# EAGLE library part IN-8-2 (library 0-nixies-russian)
IN-8-2: medium numeric frontview nixie tube
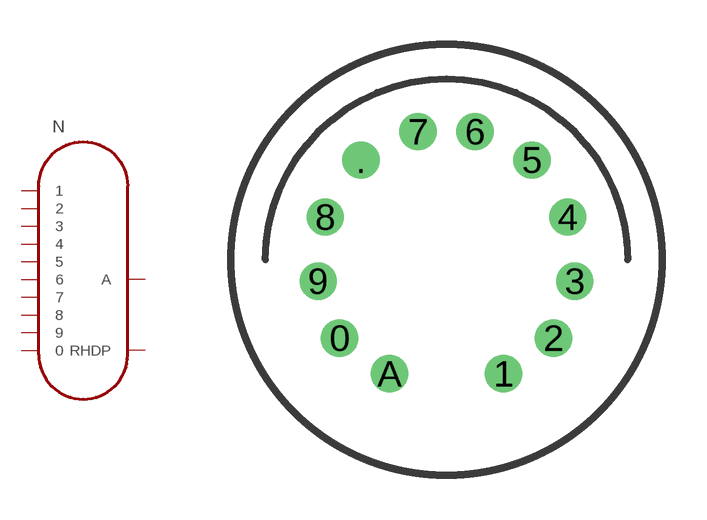
[diagram p1: symbol with the pads of IN-8-2; footprint IN-8-2]

Designator prefix N

## IN-8-2  [IN-8-2]
0  0
1  1
2  2
3  3
4  4
5  5
6  6
7  7
8  8
9  9
.  RHDP
A  A

## Footprint IN-8-2 (pad centres in mm)
drill 0.8 round: 0 -3.75,-2.75; 1 2,-4; 2 3.75,-2.75; 3 4.5,-0.75; 4 4.25,1.5; 5 3,3.5; 6 1,4.5; 7 -1,4.5; 8 -4.25,1.5; 9 -4.5,-0.75; . -3,3.5; A -2,-4